# Altium footprint library 480370001.PcbLib: 1 footprints
Each footprint in its own frame and in the unit in brackets; x right, y up, seen from the top. Pads: shape width x height; smd on the part's side, far side on the other; paste and mask are expansions set on the pad; w line width, h text height; cw(c..) or ccw(c..) is an arc to the next point about the centre after c.
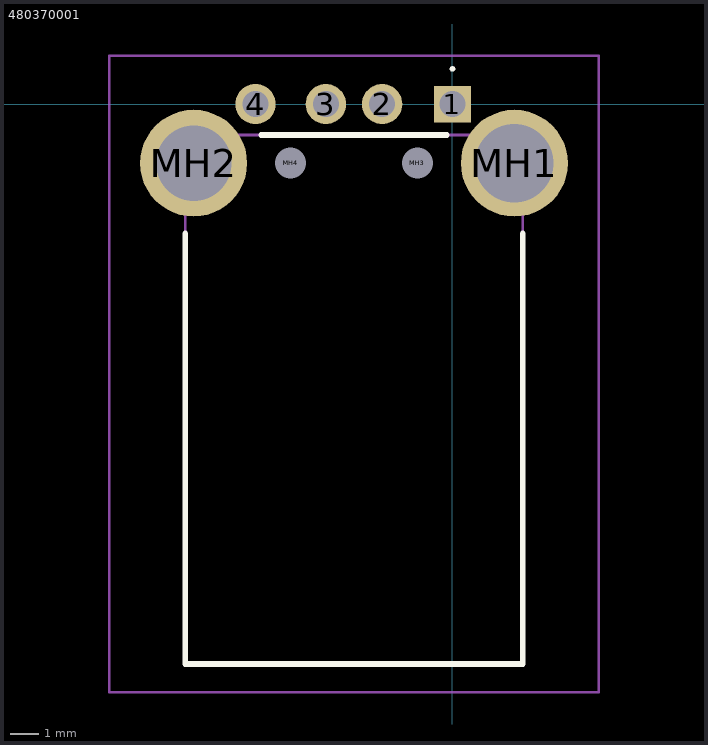
[diagram p0: the footprint, top view; thin cyan lines are the x and y axes]

## 480370001 [mm]
pads (8):
  rect 1.3x1.3 hole 0.92: 1(0,0)
  round 1.431 hole 0.92: 2(-2.5,0) 3(-4.5,0) 4(-7,0)
  round 3.8 hole 2.79: MH1(2.2,-2.1)
  round 3.8 hole 2.69: MH2(-9.2,-2.1)
  round 0.55 hole 1.1 unplated: MH3(-1.25,-2.1) MH4(-5.75,-2.1)
Top Overlay:
  lines w0.1: 0,1.2 0,1.2 ; 0,1.2 ccw(c0,1.25) 0,1.3 ; 0,1.2 cw(c0,1.25) 0,1.3 ; 0,1.3 0,1.3
  lines w0.2: -9.5,-4.6 -9.5,-19.9 2.5,-19.9 2.5,-4.6 ; -6.8,-1.1 -0.2,-1.1
Mechanical 15:
  lines w0.1: -9.5,-19.9 2.5,-19.9 2.5,-1.1 -9.5,-1.1 -9.5,-19.9
Mechanical 20:
  lines w0.1: -12.2,-20.9 5.2,-20.9 5.2,1.716 -12.2,1.716 -12.2,-20.9